# Altium footprint library ALTAIR_PD_Coaxial.PcbLib: 4 footprints
Each footprint in its own frame and in the unit in brackets; x right, y up, seen from the top. Pads: shape width x height; smd on the part's side, far side on the other; paste and mask are expansions set on the pad; w line width, h text height; cw(c..) or ccw(c..) is an arc to the next point about the centre after c.
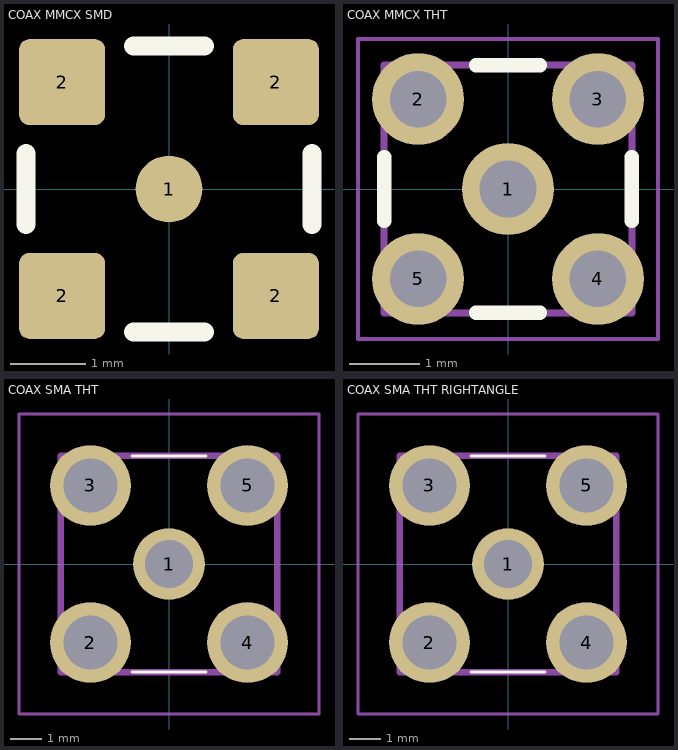
[diagram p0: the footprints below, top view; thin cyan lines are the x and y axes]

## COAX MMCX SMD [mm] "50Ohm, female jack"
pads (5):
  round 0.89 smd: 1(0,0)
  rrect25% 1.15x1.15 smd: 2(-1.425,-1.425) 2(-1.425,1.425) 2(1.425,-1.425) 2(1.425,1.425)
Top Overlay:
  lines w0.254: -1.905,-0.475 -1.905,0.475 ; -0.475,-1.905 0.475,-1.905 ; -0.475,1.905 0.475,1.905 ; 1.905,-0.475 1.905,0.475
3D body "734152061.stp": height 5, standoff -0.01, extent -1.725,-1.725 1.725,1.725

## COAX MMCX THT [mm] "50Ohm, 6GHz max, female jack, Wurth Elektronik 66012002111503"
height 4.5
pads (5):
  round 1.3 hole 0.8: 1(0,0) 2(-1.27,1.27) 3(1.27,1.27) 4(1.27,-1.27) 5(-1.27,-1.27)
Top Overlay:
  lines w0.2: -1.75,-0.45 -1.75,0.45 ; -0.45,-1.75 0.45,-1.75 ; -0.45,1.75 0.45,1.75 ; 1.75,-0.45 1.75,0.45
Top Courtyard:
  lines w0.05: -0.5,0 0.5,0 ; 0,-0.5 0,0.5 ; -2.12,-2.12 2.12,-2.12 2.12,2.12 -2.12,2.12 -2.12,-2.12
Top 3D Body:
  lines w0.1: -1.75,-1.75 1.75,-1.75 1.75,1.75 -1.75,1.75 -1.75,-1.75
Top Component Outline:
  lines w0.1: -1.75,-1.75 -1.75,1.75 1.75,1.75 1.75,-1.75 -1.75,-1.75
Top Designator:
  text ".Designator" at 3.332,-0.666 h1
3D body "66012002111503.stp": height 4.5, standoff -2.5, extent -1.75,-1.75 1.75,1.75

## COAX SMA THT [mm] "50Ohm, 18GHz max, female jack, Wurth Elektronik 60312002114503"
pads (5):
  round 2.325 hole 1.55: 1(0,0)
  round 2.625 hole 1.75: 2(-2.54,-2.54) 3(-2.54,2.54) 4(2.54,-2.54) 5(2.54,2.54)
Top Overlay:
  lines w0.1: -1.2,-3.5 1.2,-3.5 ; -1.2,3.5 1.2,3.5
Mechanical 13:
  lines w0.2: -3.5,-3.5 -3.5,3.5 3.5,3.5 3.5,-3.5 -3.5,-3.5
Mechanical 15:
  lines w0.1: -4.853,-4.853 -4.853,4.853 4.853,4.853 4.853,-4.853 -4.853,-4.853
3D body "60312002114503.stp": height 10.19, standoff -3.31, extent -3.5,-3.5 3.5,3.5

## COAX SMA THT RIGHTANGLE [mm] "SMA Connector Jack, Female Socket 50 Ohms Through Hole, Right Angle Solder"
pads (5):
  round 2.325 hole 1.55: 1(0,0)
  round 2.625 hole 1.75: 2(-2.54,-2.54) 3(-2.54,2.54) 4(2.54,-2.54) 5(2.54,2.54)
Top Overlay:
  lines w0.1: -1.2,-3.5 1.2,-3.5 ; -1.2,3.5 1.2,3.5
Mechanical 13:
  lines w0.2: -3.5,-3.5 -3.5,3.5 3.5,3.5 3.5,-3.5 -3.5,-3.5
Mechanical 15:
  lines w0.1: -4.853,-4.853 -4.853,4.853 4.853,4.853 4.853,-4.853 -4.853,-4.853
3D body "SMA-J-P-H-RA-TH1.STEP": height 9.87, standoff -3.93, extent -3.5,-11.671 3.5,3.429